# Altium footprint library WS100.PcbLib: 58 footprints (part 1 of 4)
Each footprint in its own frame and in the unit in brackets; x right, y up, seen from the top. Pads: shape width x height; smd on the part's side, far side on the other; paste and mask are expansions set on the pad; w line width, h text height; cw(c..) or ccw(c..) is an arc to the next point about the centre after c.
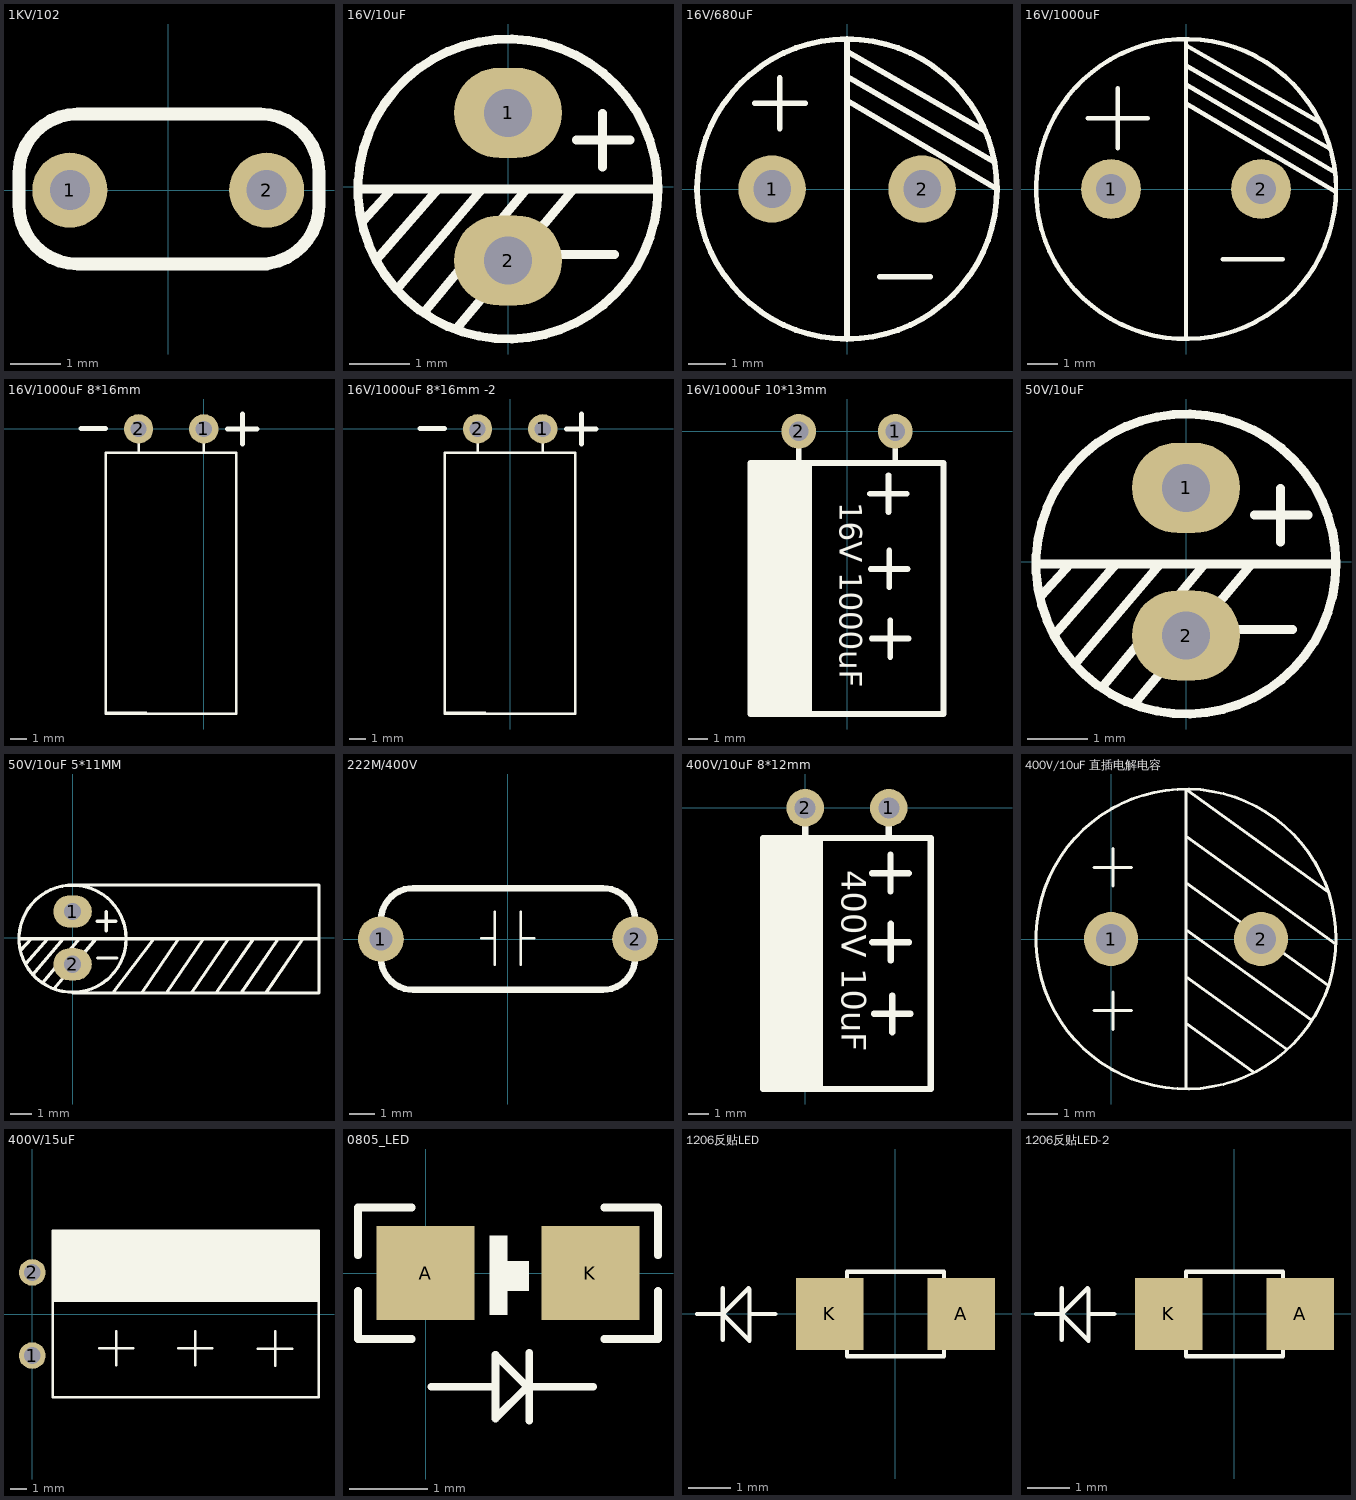
[diagram p0: the footprints below, top view; thin cyan lines are the x and y axes]

## 1KV/102 [mm]
pads (2):
  round 1.5 hole 0.8: 1(-1.968,0) 2(1.968,0)
Top Overlay:
  lines w0.254: 1.841,-1.476 ccw(c1.841,-0.302) 3.016,-0.302 3.016,0.35 ccw(c1.841,0.35) 1.841,1.524 -1.81,1.524 ccw(c-1.81,0.35) -2.984,0.35 -2.984,-0.302 ccw(c-1.81,-0.302) -1.81,-1.476 1.968,-1.476

## 16V/10uF [mm]
pads (2):
  oval 1.8x1.5 hole 0.8: 1(0,1.232) 2(0,-1.232)
Top Overlay:
  circle w0.15: c0,-0.038 r2.5
  lines w0.15: -2.464,-0.038 2.5,-0.038 ; -2.415,-0.569 -1.93,-0.038 ; -2.184,-1.206 -1.168,-0.038 ; -1.854,-1.714 -0.432,-0.038 ; -1.397,-2.095 0.305,-0.038 ; -0.853,-2.358 1.092,-0.038 ; 0.889,-1.13 1.778,-1.13 ; 1.143,0.775 2.032,0.775 ; 1.575,0.33 1.575,1.219

## 16V/680uF [mm]
pads (2):
  round 1.8 hole 1: 1(-2,0) 2(2,0)
Top Overlay:
  circle w0.15: c0,0 r4
  lines w0.15: -2.464,2.286 -1.118,2.286 ; -1.791,1.613 -1.791,2.959 ; 0,-3.988 0,0 0,3.988 ; 0,2.362 4,0 ; 0,2.997 3.912,0.737 ; 0.025,3.658 3.683,1.549 ; 0.876,-2.337 2.222,-2.337

## 16V/1000uF [mm]
pads (2):
  round 2 hole 1: 1(-2.5,0) 2(2.5,0)
Top Overlay:
  circle w0.15: c0,0 r5
  lines w0.15: -3.277,2.362 -1.27,2.362 ; -2.273,1.359 -2.273,3.365 ; 0,-4.928 0,0 0,4.978 ; 0,2.845 4.97,-0.09 ; 0,3.48 4.97,0.545 ; 0,4.115 4.798,1.342 ; 0.025,4.775 4.442,2.23 ; 2.222,-2.337 1.219,-2.337 3.226,-2.337

## 16V/1000uF 8*16mm [mm]
pads (2):
  round 1.8 hole 1: 1(0,0) 2(-4,0)
Top Overlay:
  rectangle: -6,-17.475 -3.48,-17.325
  lines w0.15: -4,0 -4,-1.46 ; 0,0 0,-1.46 ; -4,-1.46 -6,-1.46 -6,-17.46 2,-17.46 2,-1.46 0,-1.46 ; -4,-1.46 0,-1.46
  lines w0.3: -7.544,0.025 -6.02,0.025 ; 1.448,0 3.277,0 ; 2.362,-0.914 2.362,0.914

## 16V/1000uF 8*16mm -2 [mm]
pads (2):
  round 1.8 hole 1: 1(2,0) 2(-2,0)
Top Overlay:
  rectangle: -4,-17.475 -1.48,-17.325
  lines w0.15: -2,0 -2,-1.46 ; 2,0 2,-1.46 ; -2,-1.46 2,-1.46 ; -2,-1.46 -4,-1.46 -4,-17.46 4,-17.46 4,-1.46 2,-1.46
  lines w0.3: -5.544,0.025 -4.02,0.025 ; 3.448,0 5.277,0 ; 4.362,-0.914 4.362,0.914

## 16V/1000uF 10*13mm [mm]
pads (2):
  round 1.8 hole 1: 1(2.5,0) 2(-2.5,0)
Top Overlay:
  rectangle: -5,-14.605 -1.956,-1.636
  lines w0.3: -2.5,0 -2.5,-1.636 ; -1.956,-14.605 -1.956,-1.636 ; 1.194,-3.226 3.099,-3.226 ; 1.232,-7.125 3.137,-7.125 ; 1.283,-10.731 3.188,-10.731 ; 2.146,-4.178 2.146,-2.273 ; 2.184,-8.077 2.184,-6.172 ; 2.235,-11.684 2.235,-9.779 ; 2.5,0 2.5,-1.636 ; -2.5,-1.636 2.5,-1.636 ; -2.5,-1.636 -5,-1.636 -5,-14.636 5,-14.636 5,-1.636 2.5,-1.636
  text "16V 1000uF" at -0.762,-3.683 h2

## 50V/10uF [mm]
pads (2):
  oval 1.8x1.5 hole 0.8: 1(0,1.232) 2(0,-1.232)
Top Overlay:
  circle w0.15: c0,-0.038 r2.5
  lines w0.15: -2.464,-0.038 2.5,-0.038 ; -2.415,-0.569 -1.93,-0.038 ; -2.184,-1.206 -1.168,-0.038 ; -1.854,-1.714 -0.432,-0.038 ; -1.397,-2.095 0.305,-0.038 ; -0.853,-2.358 1.092,-0.038 ; 0.889,-1.13 1.778,-1.13 ; 1.143,0.775 2.032,0.775 ; 1.575,0.33 1.575,1.219

## 50V/10uF 5*11MM [mm]
pads (2):
  oval 1.8x1.5 hole 0.8: 1(0,1.232) 2(0,-1.232)
Top Overlay:
  circle w0.15: c0,-0.038 r2.5
  lines w0.15: -2.464,-0.038 2.5,-0.038 11.5,-0.038 ; -2.415,-0.569 -1.93,-0.038 ; -2.184,-1.206 -1.168,-0.038 ; -1.854,-1.714 -0.432,-0.038 ; -1.397,-2.095 0.305,-0.038 ; -0.853,-2.358 1.092,-0.038 ; 0,-2.565 11.5,-2.565 11.5,2.464 0,2.464 ; 1.143,0.775 2.032,0.775 ; 1.168,-0.94 2.057,-0.94 ; 1.575,0.33 1.575,1.219 ; 1.88,-2.565 3.785,-0.051 ; 3.226,-2.565 4.953,-0.038 ; 4.394,-2.553 6.101,-0.055 ; 5.563,-2.54 7.264,-0.051 ; 6.731,-2.527 8.415,-0.064 ; 7.882,-2.54 9.569,-0.072 ; 9.05,-2.527 10.743,-0.05

## 222M/400V [mm]
pads (2):
  round 1.8 hole 0.9: 1(-5,0) 2(5,0)
Top Overlay:
  lines w0.1: -1.047,0.032 -0.514,0.032 ; -0.514,-1.009 -0.514,1.073 ; 0.502,-1.009 0.502,1.073 ; 0.502,0.032 1.036,0.032
  lines w0.254: -5,-0.73 ccw(c-3.73,-0.73) -3.73,-2 3.73,-2 ccw(c3.73,-0.73) 5,-0.73 ; -5,0 -5,0.73 cw(c-3.73,0.73) -3.73,2 3.73,2 cw(c3.73,0.73) 5,0.73

## 400V/10uF 8*12mm [mm]
pads (2):
  round 1.8 hole 1: 1(4,0) 2(0,0)
Top Overlay:
  rectangle: -2,-13.437 0.711,-1.448
  lines w0.3: 0,0 0,-1.448 ; 0.711,-13.437 0.711,-1.448 0.838,-1.448 ; 3.2,-3.124 4.953,-3.124 ; 3.213,-6.426 4.966,-6.426 ; 3.289,-9.855 5.042,-9.855 ; 4,0 4,-1.448 ; 4.077,-4 4.077,-2.248 ; 4.089,-7.302 4.089,-5.55 ; 4.166,-10.731 4.166,-8.979 ; 0,-1.448 -2,-1.448 -2,-13.448 0,-13.448 4,-13.448 6,-13.448 6,-1.448 4,-1.448 ; 0,-1.448 4,-1.448
  text "400V 10uF" at 1.372,-2.997 h2

## 400V/10uF 直插电解电容 [mm]
pads (2):
  round 1.8 hole 1: 1(0,0) 2(5,0)
Top Overlay:
  circle w0.1: c2.5,0 r5
  lines w0.1: -0.559,-2.388 0.686,-2.388 ; -0.559,2.388 0.686,2.388 ; 0.064,-3.01 0.064,-1.765 ; 0.064,1.765 0.064,3.01 ; 2.5,-4.989 2.5,0 2.5,4.989 7.239,1.575 ; 2.5,-2.812 4.736,-4.423 ; 2.5,-1.252 5.858,-3.671 ; 2.5,0.309 6.668,-2.694 ; 2.5,1.869 7.239,-1.546 ; 2.5,3.429 7.493,-0.168

## 400V/15uF [mm]
pads (2):
  round 1.6 hole 1: 1(0,-2.5) 2(0,2.5)
Top Overlay:
  rectangle: 1.245,0.715 17.247,5
  lines w0.15: 4.013,-2.054 6.071,-2.054 ; 5.042,-3.082 5.042,-1.025 ; 8.776,-2.054 10.833,-2.054 ; 9.804,-3.082 9.804,-1.025 ; 13.576,-2.079 15.634,-2.079 ; 14.605,-3.108 14.605,-1.05 ; 1.245,-5 1.245,5 17.245,5 17.245,-5 1.245,-5

## 0805_LED [mm]
pads (2):
  rect 1.25x1.2 smd: A(0,0) K(2.1,0)
Top Overlay:
  rectangle: 0.813,-0.533 1.041,0.483
  rectangle: 0.94,-0.229 1.321,0.152
  lines w0.1: -0.864,-0.229 -0.864,-0.838 -0.178,-0.838 ; -0.864,0.229 -0.864,0.838 -0.178,0.838 ; 0.076,-1.448 0.889,-1.448 ; 1.321,-1.88 1.321,-1.016 ; 2.134,-1.448 1.295,-1.448 ; 2.278,-0.838 2.964,-0.838 2.964,-0.229 ; 2.278,0.838 2.964,0.838 2.964,0.229 ; 0.889,-1.448 0.889,-1.854 1.295,-1.448 ; 0.889,-1.448 0.889,-1.041 1.295,-1.448

## 1206反贴LED [mm]
pads (2):
  rect 1.6x1.7 smd: A(1.556,0) K(-1.556,0)
Top Overlay:
  lines w0.1: -4.698,0 -4.089,0 ; -4.089,-0.61 -4.089,0 ; -4.089,0.61 -4.089,0 ; -3.454,0 -2.844,0 ; -4.089,0 -3.479,0.61 -3.454,0.584 -3.454,-0.635 -4.089,0 ; -1.149,-1 1.151,-1 1.151,0 1.151,1 -1.149,1 -1.149,0 -1.149,-1

## 1206反贴LED-2 [mm]
pads (2):
  rect 1.6x1.7 smd: A(1.556,0) K(-1.556,0)
Top Overlay:
  lines w0.1: -4.698,0 -4.089,0 ; -4.089,-0.61 -4.089,0 ; -4.089,0.61 -4.089,0 ; -3.454,0 -2.844,0 ; -4.089,0 -3.454,-0.635 -3.454,0.584 -3.479,0.61 -4.089,0 ; -1.149,-1 -1.149,0 -1.149,1 1.151,1 1.151,0 1.151,-1 -1.149,-1